# Altium schematic symbol library Voltage Regulator.SchLib: 52 symbols (part 1 of 2)
Pins are listed as number, name and electrical type; pins without a type are passive.

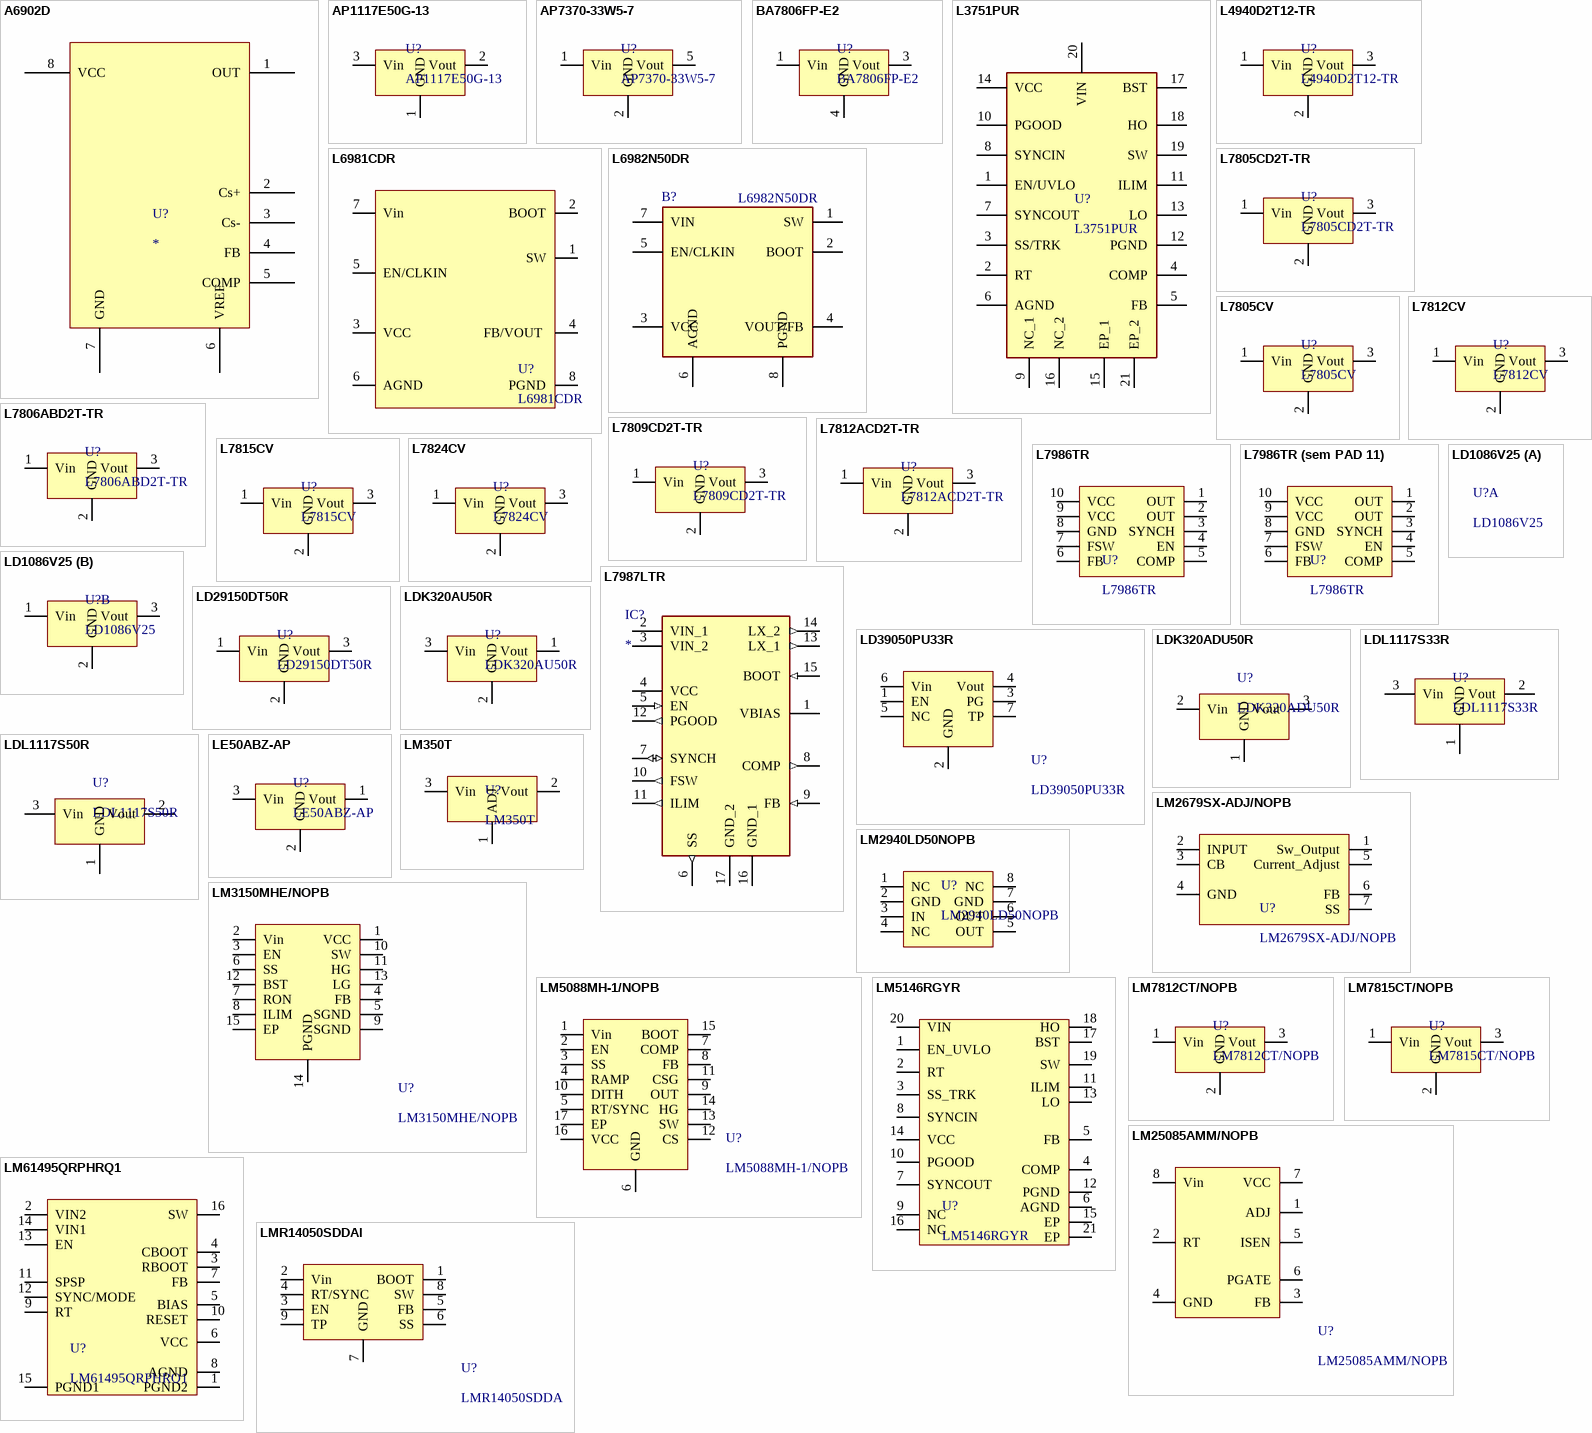
[diagram p0: symbols A6902D to LMR14050SDDAl]

## A6902D
designator U?
IC REG SWITCHING 36V 3.2A SO-8; Manufacturer: STMicroelectronics; Manufacturer Part Number: A6902D; Package Body Material: Plastic; Throw Configuration: SWITCHING REGULATOR; Control Mode: VOLTAGE-MODE; Min Input Voltage: 8V; Nominal Supply Voltage: 12V; Channels: 1; Package Equivalence Code: SOP8,.25; Switcher Configuration: BUCK; Frequency: 280kHz; Qualification Status: Not Qualified; Supplier: Heisener; Supplier Part Number: A6902D; RoHS: Yes; Category: Voltage Regulators - Switching; Stock: 5879; Pricing: 1=1,5991 (USD); Case/Package: SOP; Pins: 8; Package Shape: Rectangular; Min Operating Temperature: -40°C; Max Operating Temperature: 85°C; Max Supply Voltage: 36V; JESD-30 Code: R-PDSO-G8; Max Output current: 3.2A; Package Style: SMALL OUTLINEMeter; Surface Mount: Yes; Technology: MOS; Terminal Form: Gull Wing; Terminal Position: DUAL; Length: 4.9mm; Width: 3.9mm; Height - Seated (Max): 1.75mm; Terminal Pitch: 1.27mm; Temperature Grade: INDUSTRIAL; Reach SVHC Compliant: Yes; RoHS Compliant: Yes; ComponentLink1URL: https://datasheet.ciiva.com:443/pdfs/VipMasterIC/IC/SGST/SGST-S-A0006719125/SGST-S-A0006719125-1.pdf?src-supplier=IHS+Markit; ComponentLink1Description: https://datasheet.ciiva.com:443/pdfs/VipMasterIC/IC/SGST/SGST-S-A0006719125/SGST-S-A0006719125-1.pdf?src-supplier=IHS+Markit; ComponentLink2URL: http://www.mouser.com/ds/2/389/a6902d-973891.pdf?src-supplier=Mouser; ComponentLink2Description: http://www.mouser.com/ds/2/389/a6902d-973891.pdf?src-supplier=Mouser; ComponentLink3URL: http://www.st.com/web/en/resource/technical/document/datasheet/CD00172512.pdf?src-supplier=Avnet; ComponentLink3Description: http://www.st.com/web/en/resource/technical/document/datasheet/CD00172512.pdf?src-supplier=Avnet; ComponentLink4URL: http://www.st.com/content/ccc/resource/technical/document/datasheet/15/ec/62/48/21/a2/4d/30/CD00172512.pdf/files/CD00172512.pdf/jcr:content/translations/en.CD00172512.pdf?src-supplier=Digikey; ComponentLink4Description: http://www.st.com/content/ccc/resource/technical/document/datasheet/15/ec/62/48/21/a2/4d/30/CD00172512.pdf/files/CD00172512.pdf/jcr:content/translations/en.CD00172512.pdf?src-supplier=Digikey; ComponentLink5URL: https://datasheet.octopart.com/A6902D-STMicroelectronics-datasheet-62331165.pdf?src-supplier=SHENGYU+ELECTRONICS; ComponentLink5Description: https://datasheet.octopart.com/A6902D-STMicroelectronics-datasheet-62331165.pdf?src-supplier=SHENGYU+ELECTRONICS
footprint SO-8 (Regulator)
pins: 1 OUT, 2 Cs+, 3 Cs-, 4 FB, 5 COMP, 6 VREF, 7 GND, 8 VCC

## AP1117E50G-13
designator U?
IC REG LINEAR 5V 1A SOT-223-3; Manufacturer: Diodes Incorporated; Max Power Dissipation: 15 W; Output Type: Fixed; Number of Regulators: 1; Voltage - Input (Max): 18V; Current - Quiescent (Iq): 10 mA; Voltage - Dropout (Max): 1.3V; Library Control - Checked Footprint: Yes; Library Control - Person that Checked Footprint: Nícolas; Power Dissipation: Internally limited; Voltage - Output (Max): 5.1V; Supplier 1: MOUSER; Part Number: AP1117E50G-13; Library Ref: Voltage Regulator; Category: Linear Voltage Regulator; Price: 1= 0.48000, 10= 0.38900, 100= 0.24000 (USD); Package/ Case: SOT-223-3; Operating Temperature: -20°C~125°C; Voltage - Output (Min/Fixed): 5V; Supplier Part Number 1: 621-AP1117E50G-13; Library Control - Checked Schematic: Yes; Library Control - Last Update: 24/06/21 18:50; Library Control - Person that Checked Schematic: Nícolas; Library Control - Person that did the Last Update Schematic: Nícolas; Current - Output: 1 A; ComponentLink1Description: Mouser Link; ComponentLink1URL: https://br.mouser.com/ProductDetail/Diodes-Incorporated/AP1117E50G-13?qs=%2Fha2pyFadugY3B1se8ggjHM3Rnn%252BdepklK%252BjtxF%2FSx8Z%2FYRK43Uigw%3D%3D; ComponentLink2Description: Datasheet; ComponentLink2URL: https://br.mouser.com/datasheet/2/115/AP1117-82280.pdf
footprint SOT-223-3
pins: 1 GND (power), 2 Vout (power), 3 Vin (power)

## AP7370-33W5-7
designator U?
IC REG LINEAR 3.3V 300mA SOT-25-5; Manufacturer: Diodes Incorporated; Max Power Dissipation: 0,967W; Output Type: Fixed; Number of Regulators: 1; Voltage - Input (Max): 20V; Current - Quiescent (Iq): Ultra Low; Voltage - Dropout (Max): ~1.5V; Library Control - Checked Footprint: Yes; Library Control - Person that Checked Footprint: Nícolas; Power Dissipation: 0.967W; Supplier 1: Mouser; Part Number: AP7370-33W5-7; Library Ref: Voltage Regulator; Category: Linear Voltage Regulator; Price: 1=0,40, 10=0,32, 100=0,19 (USD); Package/ Case: SOT-25-5; Operating Temperature: -65~150ºC; Voltage - Output (Min/Fixed): 3.3V; Supplier Part Number 1: 621-AP7370-33W5-7; Library Control - Checked Schematic: Yes; Library Control - Last Update: 25/06/21; Library Control - Person that Checked Schematic: Nícolas; Library Control - Person that did the Last Update Schematic: Nícolas; Current - Output: 300mA; Voltage - Output (Max): 3.3V; ComponentLink1Description: Mouser Link; ComponentLink1URL: https://br.mouser.com/ProductDetail/Diodes-Incorporated/AP7370-33W5-7?qs=%2Fha2pyFadugvTLtMbpNAWKSUPVJjR9Anq%2F198IzgkwzIRMdjBskxocCj%2FSGsAqTl; ComponentLink2Description: Datasheet; ComponentLink2URL: https://br.mouser.com/datasheet/2/115/AP7370-1605740.pdf
footprint SOT-25-5 (SOT23, 5-Leads, Body 2,95x2,75mm, Pitch 0,95mm, IPC Medium Density)
pins: 1 Vin (power), 2 GND (power), 5 Vout (power)

## BA7806FP-E2
designator U?
IC REG LINEAR 6V 1A  TO-252-3; Manufacturer: ROHM Semiconductor; Max Power Dissipation: 10W; Output Type: Fixed; Number of Regulators: 1; Voltage - Input (Max): 21V; Current - Quiescent (Iq): 10mA; Voltage - Dropout (Max): 2V; Library Control - Checked Footprint: Yes; Library Control - Last Project that Used: None; Library Control - Person that Checked Footprint: Nícolas; Library Control - Person that did the Last Update Footprint: Ticken; Supplier 1: Mouser; Part Number: BA7806FP-E2; Library Ref: Linear Voltage Regulator; Category: Linear Regulators; Price: 1= 1.04, 10= 0.926, 100= 0.722 (USD); Package/ Case: TO-252-3; Operating Temperature: -40°C~85°C; Voltage - Output (Min/Fixed): 6V; Supplier Part Number 1: 755-BA7806FP-E2; Library Control - Checked Schematic: Yes; Library Control - Last Update: 06/06/2021; Library Control - Person that Checked Schematic: Nícolas; Library Control - Person that did the Last Update Schematic: Ticken; ComponentLink1Description: Mouser Link; ComponentLink1URL: https://br.mouser.com/ProductDetail/ROHM-Semiconductor/BA7806FP-E2?qs=%2Fha2pyFaduhWsB%252BR6z9FYqJU6SQf0SofA6pKfKkQ2n0vurGA%252Bwxu0g%3D%3D; ComponentLink2Description: Datasheet; ComponentLink2URL: https://br.mouser.com/datasheet/2/348/ba78_series-e-1874155.pdf
footprint TO-252-3_
pins: 1 Vin (power), 3 Vout (power), 4 GND (power)

## L3751PUR
designator U?
IC REG SWITCHING 30V 7A; Manufacturer: ST; Number of Regulators: 1; Voltage - Input (Max): 6 ~ 75V; Voltage - Output (Min/Fixed): 0.8 ~ 60V; Supplier 1: Mouser; Part Number: L3751PUR; Library Ref: Switching Voltage Regulator; Category: Voltage Regulator; Price: -; Package/ Case: QFN20; Operating Temperature: -40°C ~ +150°C; Max Power Dissipation: -; Output Type: -; Supplier Part Number 1: 511-L3751PUR; Voltage - Input (Min): *; Voltage - Output (Max): *; Current - Output: *; Frequency - Switching: *; Current - Operating Supply: *; ComponentLink1Description: Mouser Link; ComponentLink1URL: https://br.mouser.com/ProductDetail/STMicroelectronics/L3751PUR?qs=tlsG%2FOw5FFigxiT6z1V%252B%252Bw%3D%3D; ComponentLink2Description: Datasheet; ComponentLink2URL: https://br.mouser.com/datasheet/2/389/l3751-2950138.pdf
footprint L3751PUR
pins: 1 EN/UVLO, 2 RT, 3 SS/TRK, 4 COMP, 5 FB, 6 AGND, 7 SYNCOUT, 8 SYNCIN, 9 NC_1, 10 PGOOD, 11 ILIM, 12 PGND, 13 LO, 14 VCC, 15 EP_1, 16 NC_2, 17 BST, 18 HO, 19 SW, 20 VIN, 21 EP_2

## L4940D2T12-TR
designator U?
IC REG LINEAR 12V 1.5A  D2PAK; Manufacturer: STMicroeletronics; Max Power Dissipation: 20W; Output Type: Fixed; Number of Regulators: 1; Voltage - Input (Max): 30V; Current - Quiescent (Iq): 30mA; Voltage - Dropout (Max): 900 mV; Library Control - Checked Footprint: Yes; Library Control - Last Project that Used: None; Library Control - Person that Checked Footprint: Nícolas; Library Control - Person that did the Last Update Footprint: Ticken; Supplier 1: Mouser; Part Number: L4940D2T12-TR; Library Ref: Linear Voltage Regulator; Category: Linear Regulators; Price: 1 = 1.63/ 10 = 1.47/ 25 = 1.40/ 100 = 1.15 (USD); Package/ Case: TO-263-3; Operating Temperature: -40°C~150°C; Voltage - Output (Min/Fixed): 12V; Supplier Part Number 1: 511-L4940D2T12-TR; Library Control - Checked Schematic: Yes; Library Control - Last Update: 24/06/21; Library Control - Person that Checked Schematic: Nícolas; Library Control - Person that did the Last Update Schematic: Ticken; ComponentLink1Description: Mouser Link; ComponentLink1URL: https://br.mouser.com/ProductDetail/STMicroelectronics/L4940D2T12-TR?qs=%2Fha2pyFadui8HofDMA595p5I8no6nuvNwrh%252B2nPICQS97fB%2F%252BudI%252BA%3D%3D; ComponentLink2Description: Datasheet; ComponentLink2URL: https://br.mouser.com/datasheet/2/389/cd00000442-1795443.pdf
footprint D2PAK (D2-PAK, 3-Pads, Body 7,60x8,64mm (max), IPC Medium Density)
pins: 1 Vin (power), 2 GND (power), 3 Vout (power)

## L6981CDR
designator U?
IC REG SWITCHING 1.5A 3.5V TO 38V; Manufacturer: STM; Output Type: Adjustable; Number of Regulators: 1; Library Control - Checked Schematic: Yes; Library Control - Person that Checked Footprint: Stéfany (Ster); Library Control - Person that did the Last Update Footprint: Maria Laura; Frequency - Switching: 400kHz; Supplier 1: STM; Part Number: L6981CDR; Library Ref: Voltage Regulator; Category: Switching Voltage Regulator; Price: 1=2,72, 10=2,45, 100=1,97 (USD); Package/ Case: SO-8; Operating Temperature: -40~150ºC; Max Power Dissipation: -; Voltage - Input (Max): 38V; Voltage - Output (Min/Fixed): 3.5V; Supplier Part Number 1: L6981CDR; Voltage - Dropout (Max): -; Library Control - Last Update: 22/08/2021 16:31; Library Control - Person that Checked Schematic: Stéfany (Ster); Library Control - Person that did the Last Update Schematic: Stéfany (Ster); Voltage - Input (Min): 3.5V; Voltage - Output (Max): 38V; Current - Output: 1.5A; Current - Operating Supply: -; ComponentLink1Description: Datasheet; ComponentLink1URL: https://www.st.com/resource/en/datasheet/l6981.pdf; ComponentLink2Description: STM Link; ComponentLink2URL: https://estore.st.com/en/l6981cdr-cpn.html
footprint SO-8 (Regulator)
pins: 1 SW, 2 BOOT, 3 VCC, 4 FB/VOUT , 5 EN/CLKIN, 6 AGND, 7 Vin, 8 PGND

## L6982N50DR
designator B?
38 V, 2 A synchronous step-down converter with low quiescent current; Manufacturer_Name: STMicroelectronics; Geometry.Height: 1.75mm; Mouser Part Number: 511-L6982N50DR; Mouser Price/Stock: https://www.mouser.co.uk/ProductDetail/STMicroelectronics/L6982N50DR?qs=rQFj71Wb1eViugxt34b%2FVA%3D%3D; Manufacturer_Part_Number: L6982N50DR; Datasheet Link: https://www.st.com/resource/en/datasheet/l6982.pdf
footprint SO-8 (Regulator)
pins: 1 SW, 2 BOOT, 3 VCC, 4 VOUT/FB, 5 EN/CLKIN, 6 AGND, 7 VIN, 8 PGND

## L7805CD2T-TR
designator U?
IC REG LINEAR 5V 1A D2PAK; Manufacturer: ST; Max Power Dissipation: Internally Limited; Output Type: Fixed; Number of Regulators: 1; Voltage - Input (Max): 35V; Current - Quiescent (Iq): 8mA; Voltage - Dropout (Max): 2V; Library Control - Checked Footprint: Yes; Library Control - Person that Checked Footprint: Nícolas; Voltage - Output (Max): 5.25V; Supplier 1: Mouser; Part Number: L7805CD2T-TR; Library Ref: Voltage Regulator; Category: Linear Voltage Regulator; Price: 1=0,93, 10=0,83, 100=0,79 (USD); Package/ Case: D2PAK; Operating Temperature: -40~125 ºC; Voltage - Output (Min/Fixed): 5V; Supplier Part Number 1: 511-L7805CD2T-TR; Library Control - Checked Schematic: Yes; Library Control - Last Update: 25/06/21; Library Control - Person that Checked Schematic: Nícolas; Library Control - Person that did the Last Update Schematic: Nícolas; Current - Output: 1A; Power Dissipation: Internally Limited; ComponentLink1Description: Mouser Link; ComponentLink1URL: https://br.mouser.com/ProductDetail/STMicroelectronics/L7805CD2T-TR?qs=%2Fha2pyFadujE9KQ1BxQHaLKqcK8XYkwQA8UfL%2FIGb8dfQq%2Fq%2FT%2Fjqg%3D%3D; ComponentLink2Description: Datasheet; ComponentLink2URL: https://br.mouser.com/datasheet/2/389/cd00000444-1795274.pdf
footprint D2PAK (D2-PAK, 3-Pads, Body 7,60x8,64mm (max), IPC Medium Density)
pins: 1 Vin (power), 2 GND (power), 3 Vout (power)

## L7805CV
designator U?
IC REG LINEAR 5V 1A TO-220; Manufacturer: STMicroelectronics; Max Power Dissipation: Internally limited; Output Type: Fixed; Number of Regulators: 1; Voltage - Input (Max): 35V; Current - Quiescent (Iq): 8 mA; Voltage - Dropout (Max): 2V; Library Control - Checked Footprint: Yes; Library Control - Person that Checked Footprint: Nícolas; Voltage - Output (Max): 5.25V; Supplier 1: MOUSER; Part Number: L7805CV; Library Ref: Voltage Regulator; Category: Linear Voltage Regulator; Price: 1= 0.67000, 10= 0.53200, 100= 0.39500 (USD); Package/ Case: TO-220; Operating Temperature: 0°C~125°C; Voltage - Output (Min/Fixed): 5V; Supplier Part Number 1: 511-L7805CV; Library Control - Checked Schematic: Yes; Library Control - Last Update: 23/06 10:59; Library Control - Person that Checked Schematic: Nícolas; Library Control - Person that did the Last Update Schematic: Nícolas; Current - Output: 1 A; Power Dissipation: Internally limited; ComponentLink1Description: Mouser Link; ComponentLink1URL: https://br.mouser.com/ProductDetail/STMicroelectronics/L7805CV?qs=9NrABl3fj%2FqplZAHiYUxWg%3D%3D; ComponentLink2Description: Datasheet; ComponentLink2URL: https://br.mouser.com/datasheet/2/389/cd00000444-1795274.pdf
footprint TO-220-3.
pins: 1 Vin (power), 2 GND (power), 3 Vout (power)

## L7806ABD2T-TR
designator U?
IC REG LINEAR 6V  1.5A D2PAK; Manufacturer: STMicroelectronics; Output Type: Fixed; Voltage - Input (Max): 35V; Current - Quiescent (Iq): 4.3mA; Library Control - Checked Footprint: Yes; Library Control - Person that Checked Footprint: Lazanha; Power Dissipation: Internally limited; Voltage - Output (Max): 24V; Supplier 1: Mouser; Part Number: L7806ABD2T-TR; Library Ref: Voltage Regulator; Category: Linear Voltage Regulators; Price: 1=1.18, 10=1.06, 100=0.824 (USD); Package/ Case: D2PAK; Operating Temperature: -40 to +125; Max Power Dissipation: -; Number of Regulators: -; Voltage - Output (Min/Fixed): 6V; Supplier Part Number 1: 511-L7806ABD2T-TR; Voltage - Dropout (Max): -; Library Control - Checked Schematic: Yes; Library Control - Last Update: 17/08/2022; Library Control - Person that Checked Schematic: Lazanha; Current - Output: 1.5A; ComponentLink1Description: Mouser; ComponentLink1URL: https://br.mouser.com/ProductDetail/STMicroelectronics/L7806ABD2T-TR?qs=SN1ICb4Lokb2dwnq3j%2FzZw%3D%3D; ComponentLink2Description: Datasheet; ComponentLink2URL: https://br.mouser.com/datasheet/2/389/l78-1849632.pdf
footprint D2PAK (D2-PAK, 3-Pads, Body 7,60x8,64mm (max), IPC Medium Density)
pins: 1 Vin (power), 2 GND (power), 3 Vout (power)

## L7809CD2T-TR
designator U?
IC REG LINEAR 9V 1.5A  D2PAK-3; Manufacturer: STMicroeletronics; Max Power Dissipation: Internally Limited; Output Type: Fixed; Number of Regulators: 1; Voltage - Input (Max): 35V; Current - Quiescent (Iq): 8mA; Voltage - Dropout (Max): 2V; Library Control - Checked Footprint: Yes; Library Control - Last Project that Used: None; Library Control - Person that Checked Footprint: Nícolas; Library Control - Person that did the Last Update Footprint: Ticken; Supplier 1: Mouser; Part Number: L7809CD2T-TR; Library Ref: Linear Voltage Regulator; Category: Linear Regulators; Price: 1 = 0.83/ 10 = 0.69/ 100 = 0.564 (USD); Package/ Case: D2PAK-3; Operating Temperature: 0°C~125°C; Voltage - Output (Min/Fixed): 9V; Supplier Part Number 1: 511-L7809CD2T-TR; Library Control - Checked Schematic: Yes; Library Control - Last Update: 24/06/2021; Library Control - Person that Checked Schematic: Nícolas; Library Control - Person that did the Last Update Schematic: Nícolas; ComponentLink1Description: Mouser Link; ComponentLink1URL: https://br.mouser.com/ProductDetail/STMicroelectronics/L7809CD2T-TR?qs=%2Fha2pyFadujE9KQ1BxQHaEatF%252B7k6HEFVcJJTiOr%252BuVa2Pgn7dKD3A%3D%3D; ComponentLink2Description: Datasheet; ComponentLink2URL: https://br.mouser.com/datasheet/2/389/cd00000444-1795274.pdf
footprint D2PAK (D2-PAK, 3-Pads, Body 7,60x8,64mm (max), IPC Medium Density)
pins: 1 Vin (power), 2 GND (power), 3 Vout (power)

## L7812ACD2T-TR
designator U?
IC REG LINEAR 12V 1.5A D2PAK; Manufacturer: STMicroelectronics; Max Power Dissipation: Internally limited; Output Type: Fixed; Number of Regulators: 1; Voltage - Input (Max): 35V; Current - Quiescent (Iq): 6 mA; Voltage - Dropout (Max): 2; Library Control - Checked Footprint: Yes; Library Control - Person that Checked Footprint: Nícolas; Current - Output: 1.0 A; Voltage - Output (Max): 12.5V; Supplier 1: MOUSER; Part Number: L7812ACD2T-TR; Library Ref: Voltage Regulator; Category: Linear Voltage Regulator; Price: 1= 0.83000, 10= 0.69000, 100= 0.56400 (USD); Package/ Case: D2PAK; Operating Temperature: 0°C~125°C; Voltage - Output (Min/Fixed): 12V; Supplier Part Number 1: 511-L7812ACD2T-TR; Library Control - Checked Schematic: Yes; Library Control - Last Update: 24/06/21 19:03; Library Control - Person that Checked Schematic: Nícolas; Library Control - Person that did the Last Update Schematic: Nícolas; Power Dissipation: Internally limited; ComponentLink1Description: Mouser Link; ComponentLink1URL: https://br.mouser.com/ProductDetail/STMicroelectronics/L7812ACD2T-TR?qs=%2Fha2pyFadughRW5ba%2FUlu%252BBIrfEWqNYikXUXbqNAKzaYx5upn8F2%252Bw%3D%3D; ComponentLink2Description: Datasheet; ComponentLink2URL: https://www.mouser.com/datasheet/2/389/cd00000444-1795274.pdf
footprint D2PAK (D2-PAK, 3-Pads, Body 7,60x8,64mm (max), IPC Medium Density)
pins: 1 Vin (power), 2 GND (power), 3 Vout (power)

## L7812CV
designator U?
IC REG LINEAR 12V 1.5A TO-220; Manufacturer: ST; Max Power Dissipation: Internally Limited; Output Type: Fixed; Number of Regulators: 1; Voltage - Input (Max): 35V; Current - Quiescent (Iq): 8mA; Voltage - Dropout (Max): 2V; Library Control - Checked Footprint: Yes; Library Control - Person that Checked Footprint: Nícolas; Current - Output: 1.0A; Voltage - Output (Max): 12.5V; Supplier 1: Mouser; Part Number: L7812CV; Library Ref: Voltage Regulator; Category: Linear Voltage Regulator; Price: 1= 0,49, 10= 0,39, 100=0,29 (USD); Package/ Case: TO-220; Operating Temperature: -40~125ºC; Voltage - Output (Min/Fixed): 12V; Supplier Part Number 1: 511-L7812CV; Library Control - Checked Schematic: Yes; Library Control - Person that Checked Schematic: Nícolas; Library Control - Person that did the Last Update Schematic: Nícolas; Power Dissipation: Internally Limited; ComponentLink1Description: Mouser Link; ComponentLink1URL: https://br.mouser.com/ProductDetail/STMicroelectronics/L7812CV?qs=5Uvc6lfWVJzVGZQZmBynyg%3D%3D; ComponentLink2Description: Datasheet; ComponentLink2URL: https://br.mouser.com/datasheet/2/389/cd00000444-1795274.pdf
footprint TO-220-3.
pins: 1 Vin (power), 2 GND (power), 3 Vout (power)

## L7815CV
designator U?
IC REG LINEAR 15V 1.5A TO-220; Manufacturer: ST; Max Power Dissipation: Internally Limited; Output Type: Fixed; Number of Regulators: 1; Voltage - Input (Max): 35V; Current - Quiescent (Iq): 8mA; Voltage - Dropout (Max): 2V; Library Control - Checked Footprint: Yes; Library Control - Person that Checked Footprint: Lazanha; Current - Output: 1A; Voltage - Output (Max): 15.6V; Supplier 1: Mouser; Part Number: L7815CV; Library Ref: Voltage Regulator; Category: Linear Voltage Regulator; Price: 1=0,67, 10=0,53, 100=0,39 (USD); Datasheet: https://br.mouser.com/datasheet/2/389/cd00000444-1795274.pdf; Package/ Case: TO-220; Operating Temperature: -40~125 ºC; Voltage - Output (Min/Fixed): 15V; Supplier Part Number 1: 511-L7815CV; Library Control - Checked Schematic: Yes; Library Control - Last Update: 15/08/2001; Library Control - Person that Checked Schematic: Lazanha; Power Dissipation: Internally Limited; ComponentLink1Description: Datasheet; ComponentLink1URL: https://br.mouser.com/datasheet/2/389/l78-1849632.pdf; ComponentLink2Description: Mouse Link; ComponentLink2URL: https://br.mouser.com/ProductDetail/STMicroelectronics/L7815CV?qs=htKRmzjvioQnqIcNFSQfsw%3D%3D
footprint TO-220-3.
pins: 1 Vin (power), 2 GND (power), 3 Vout (power)

## L7824CV
designator U?
IC REG LINEAR 24V 1.5A TO-220; Manufacturer: ST; Max Power Dissipation: Internally Limited; Output Type: Fixed; Number of Regulators: 1; Voltage - Input (Max): 40V; Voltage - Output (Min/Fixed): 23V/24V; Current - Quiescent (Iq): 6mA; Voltage - Dropout (Max): 2V; Library Control - Checked Footprint: Yes; Library Control - Person that Checked Footprint: Cage; Voltage - Output (Max): 25V; Supplier 1: Mouser; Part Number: L7824CV; Library Ref: Voltage Regulator; Category: Linear Voltage Regulator; Price: 1= 0,88 10= 0,759 100=0,699 (USD); Package/ Case: TO-220; Operating Temperature: 0~125ºC; Supplier Part Number 1: 511-L7824CV; Library Control - Checked Schematic: Yes; Library Control - Person that Checked Schematic: Cage; Library Control - Person that did the Last Update Footprint: Cage; Library Control - Person that did the Last Update Schematic: Cage; Current - Output: 1.5A; Power Dissipation: Internally Limited; ComponentLink1Description: Mouser Link; ComponentLink1URL: https://www.mouser.com/ProductDetail/STMicroelectronics/L7824CV?qs=GQP%2FxgjKl96cWFC%252B68wxSg%3D%3D; ComponentLink2Description: Datasheet; ComponentLink2URL: https://www.mouser.com/datasheet/2/389/l78-1849632.pdf
footprint TO-220-3.
pins: 1 Vin (power), 2 GND (power), 3 Vout (power)

## L7986TR
designator U?
IC SWITCHING REGULATOR 3A 0.6V TO 38V 1.5W; Manufacturer: ST; Current - Quiescent (Iq): 2.4mA; Library Control - Checked Footprint: Yes; Library Control - Person that Checked Footprint: Nícolas; Supplier 1: Mouser; Part Number: L7986TR; Library Ref: Voltage Regulator; Category: Switch Voltage Regulator; Price: 1=2.13, 10=1.91, 100=1.81 (USD); Package/ Case: VFQFPN10; Operating Temperature: -40~150 ºC; Max Power Dissipation: 1.5W; Voltage - Input (Max): 38V; Voltage - Output (Min/Fixed): 0.6V to 38V; Supplier Part Number 1: 511-L7986TR; Voltage - Dropout (Max): -; Library Control - Checked Schematic: Yes; Library Control - Last Update: 25/06/21; Library Control - Person that Checked Schematic: Nícolas; Library Control - Person that did the Last Update Schematic: Nícolas; Current - Output: 3A; Power Dissipation: 1.5W; Voltage - Output (Max): 38V; ComponentLink1Description: Mouser Link; ComponentLink1URL: https://br.mouser.com/ProductDetail/STMicroelectronics/L7986TR?qs=%2Fha2pyFaduhSAWyUowiTGEPjDeRtnwDI5JloeVo%2FbPI%3D; ComponentLink2Description: Datasheet; ComponentLink2URL: https://br.mouser.com/datasheet/2/389/dm00041568-1797348.pdf
footprint VFQFPN-10 (SON, 10-Leads, Body 3,00x3,00mm, Pitch 0,50mm, Thermal Pad 2,45x1,44mm, IPC Medium Density)
pins: 1 OUT, 2 OUT, 3 SYNCH, 4 EN, 5 COMP, 6 FB, 7 FSW, 8 GND, 9 VCC, 10 VCC

## L7986TR (sem PAD 11)
designator U?, comment L7986TR
IC SWITCHING REGULATOR 3A 0.6V TO 38V 1.5W; Manufacturer: ST; Current - Quiescent (Iq): 2.4mA; Library Control - Checked Footprint: Yes; Library Control - Person that Checked Footprint: Nícolas; Supplier 1: Mouser; Part Number: L7986TR; Library Ref: Voltage Regulator; Category: Switch Voltage Regulator; Price: 1=2.13, 10=1.91, 100=1.81 (USD); Package/ Case: VFQFPN10; Operating Temperature: -40~150 ºC; Max Power Dissipation: 1.5W; Voltage - Input (Max): 38V; Voltage - Output (Min/Fixed): 0.6V to 38V; Supplier Part Number 1: 511-L7986TR; Voltage - Dropout (Max): -; Library Control - Checked Schematic: Yes; Library Control - Last Update: 25/06/21; Library Control - Person that Checked Schematic: Nícolas; Library Control - Person that did the Last Update Schematic: Nícolas; Current - Output: 3A; Power Dissipation: 1.5W; Voltage - Output (Max): 38V; ComponentLink1Description: Mouser Link; ComponentLink1URL: https://br.mouser.com/ProductDetail/STMicroelectronics/L7986TR?qs=%2Fha2pyFaduhSAWyUowiTGEPjDeRtnwDI5JloeVo%2FbPI%3D; ComponentLink2Description: Datasheet; ComponentLink2URL: https://br.mouser.com/datasheet/2/389/dm00041568-1797348.pdf
footprint VFQFPN-10 - sem o pad central (SON, 10-Leads, Body 3,00x3,00mm, Pitch 0,50mm, Thermal Pad 2,45x1,44mm, IPC Medium Density)
pins: 1 OUT, 2 OUT, 3 SYNCH, 4 EN, 5 COMP, 6 FB, 7 FSW, 8 GND, 9 VCC, 10 VCC

## L7987LTR
designator IC?
Integrated Circuit; Manufacturer_Name: STMicroelectronics; Manufacturer_Part_Number: L7987LTR; Datasheet Link: https://componentsearchengine.com/Datasheets/1/L7987LTR.pdf; Height: 1.2mm; Arrow Part Number: L7987LTR; Arrow Price/Stock: https://www.arrow.com/en/products/l7987ltr/stmicroelectronics
footprint SOP65P640X120-17N
pins: 1 VBIAS (power), 2 VIN_1 (power), 3 VIN_2 (power), 4 VCC (power), 5 EN (in), 6 SS (out), 7 SYNCH (io), 8 COMP (out), 9 FB (in), 10 FSW (out), 11 ILIM (out), 12 PGOOD (out), 13 LX_1 (out), 14 LX_2 (out), 15 BOOT (in), 16 GND_1 (power), 17 GND_2 (power)

## LD1086V25
designator U?
IC LDO Voltage Regulators 2.5V 1.5A  TO-220-3 Positive; Manufacturer: STMicroelectronics; Output Type: Fixed; Voltage - Input (Max): 30 V; Current - Quiescent (Iq): 10 mA; Library Control - Checked Footprint: Yes; Library Control - Person that Checked Footprint: Lazanha; Power Dissipation: Internally Limited; Supplier 1: Mouser; Part Number: LD1086V25; Library Ref: Voltage Regulator; Category: LDO Voltage Regulators; Price: no stock; Package/ Case: TO-220-3; Operating Temperature: -40 to +125; Max Power Dissipation: -; Number of Regulators: -; Voltage - Output (Min/Fixed): 2.5 V; Supplier Part Number 1: 511-LD1086V25; Voltage - Dropout (Max): -; Library Control - Checked Schematic: Yes; Library Control - Last Update: 17/08/2022; Library Control - Person that Checked Schematic: Lazanha; Current - Output: 1.5A; Voltage - Output (Max): 2.5V; ComponentLink1Description: Mouser; ComponentLink1URL: https://br.mouser.com/ProductDetail/STMicroelectronics/LD1086V25?qs=JFwQ8L3e8iZvonq6SViqnA%3D%3D; ComponentLink2Description: Datasheet; ComponentLink2URL: https://br.mouser.com/datasheet/2/389/stmicroelectronics_cd00001884-1205006.pdf
footprint TO-220-3.
part B pins: 1 Vin (power), 2 GND (power), 3 Vout (power)

## LD29150DT50R
designator U?
IC REG LINEAR 5V 1.5A  DPAK; Manufacturer: STMicroeletronics; Max Power Dissipation: Internally Limited; Output Type: Fixed; Number of Regulators: 1; Voltage - Input (Max): 30V; Current - Quiescent (Iq): 30mA; Voltage - Dropout (Max): 0.7V; Library Control - Checked Footprint: Yes; Library Control - Last Project that Used: None; Library Control - Person that Checked Footprint: Nícolas; Library Control - Person that did the Last Update Footprint: Ticken; Supplier 1: Mouser; Part Number: LD29150DT50R; Library Ref: Linear Voltage Regulator; Category: Linear Regulators; Price: 1 = 1.31/ 10 = 1.18/ 25 = 1.12 (USD); Package/ Case: DPAK; Operating Temperature: -40°C~125°C; Voltage - Output (Min/Fixed): 5V; Supplier Part Number 1: 511-LD29150DT50R; Library Control - Checked Schematic: Yes; Library Control - Last Update: 24/06/2021; Library Control - Person that Checked Schematic: Nícolas; Library Control - Person that did the Last Update Schematic: Nícolas; ComponentLink1Description: Mouser Link; ComponentLink1URL: https://br.mouser.com/ProductDetail/STMicroelectronics/LD29150DT50R?qs=%2Fha2pyFaduhqmkZyMAN0lB6EKjN%252B2y%252BnfQy7%2F65D8B7SS6NEoncPxg%3D%3D; ComponentLink2Description: Datasheet; ComponentLink2URL: https://br.mouser.com/datasheet/2/389/cd00003403-1796235.pdf
footprint D2PAK (D2-PAK, 3-Pads, Body 7,60x8,64mm (max), IPC Medium Density)
pins: 1 Vin (power), 2 GND (power), 3 Vout (power)

## LD39050PU33R
designator U?
IC REG LINEAR 3.3V 500mA DFN-6; Manufacturer: ST; Output Type: Fixed; Number of Regulators: 1; Voltage - Input (Max): 5.5V; Current - Quiescent (Iq): 200uA; Voltage - Dropout (Max): 400mV; Library Control - Checked Schematic: Yes; Library Control - Person that Checked Schematic: Nícolas; Library Control - Person that did the Last Update Footprint: Raquel; Power Dissipation: Internally limited; Supplier 1: MOUSER; Part Number: LD39050PU33R; Library Ref: Voltage Regulator; Category: Linear Voltage Regulator; Price: 1=1,15, 10=1,04, 100=0,805 (USD); Package/ Case: DFN-6; Operating Temperature: -40~125ºC; Voltage - Output (Min/Fixed): 3.3V; Supplier Part Number 1: 511-LD39050PU33R; Library Control - Last Update: 13/06/21; Library Control - Person that did the Last Update Schematic: Raquel; Current - Output: 500mA; Voltage - Output (Max): 3.3V; ComponentLink1Description: Datasheet; ComponentLink1URL: https://br.mouser.com/datasheet/2/389/cd00227527-1796864.pdf; ComponentLink2Description: Mouser Link; ComponentLink2URL: https://br.mouser.com/ProductDetail/STMicroelectronics/LD39050PU33R?qs=%2Fha2pyFaduiE1jyjxyHM5a6T743eYlvFtYmsVlKyOscUOFir55lSig%3D%3D
footprint DFN-6 (SON, 6-Leads, Body 3,00x3,00mm, Pitch 0,95mm, Thermal Pad 2,37x1,49mm, IPC Medium Density)
pins: 1 EN, 2 GND, 3 PG, 4 Vout, 5 NC, 6 Vin, 7 TP

## LDK320ADU50R
designator U?
IC REG LINEAR 5V 200mA SOT-89-4; Manufacturer: STMicroelectronics; Max Power Dissipation: Internally limited; Output Type: Fixed; Number of Regulators: 1; Voltage - Input (Max): 18V; Current - Quiescent (Iq): 70 uA; Voltage - Dropout (Max): 200 mV; Library Control - Checked Footprint: Yes; Library Control - Person that Checked Footprint: Nícolas; Voltage - Output (Max): 5.15V; Supplier 1: MOUSER; Part Number: LDK320ADU50R; Library Ref: Voltage Regulator; Category: Linear Voltage Regulator; Price: 1= 0.88, 10= 0.723, 100= 0.59 (USD); Package/ Case: SOT-89-4; Operating Temperature: -40°C~125°C; Voltage - Output (Min/Fixed): 5V; Supplier Part Number 1: 511-LDK320ADU50R; Library Control - Checked Schematic: Yes; Library Control - Last Update: 06/09/21; Library Control - Person that Checked Schematic: Nícolas; Library Control - Person that did the Last Update Footprint: Nícolas; Library Control - Person that did the Last Update Schematic: Nícolas; Current - Output: 200 mA; Power Dissipation: Internally limited; ComponentLink1Description: Mouser Link; ComponentLink1URL: https://br.mouser.com/ProductDetail/STMicroelectronics/LDK320ADU50R?qs=%2Fha2pyFadujGyCgmZOQFKRb%252BzyniWJO%252BoqS%252BUfpbC2nXNfgTbTGZYQ%3D%3D; ComponentLink2Description: Datasheet; ComponentLink2URL: https://br.mouser.com/datasheet/2/389/dm00236470-1798725.pdf
footprint SOT-89-4
pins: 1 GND (power), 2 Vin (power), 3 Vout (power)

## LDK320AU50R
designator U?
IC REG LINEAR 5V 200mA SOT-89-4; Manufacturer: STMicroelectronics; Max Power Dissipation: Internally limited; Output Type: Fixed; Number of Regulators: 1; Voltage - Input (Max): 18V; Current - Quiescent (Iq): 70 uA; Voltage - Dropout (Max): 100 mV; Library Control - Checked Footprint: Yes; Library Control - Person that Checked Footprint: Nícolas; Voltage - Output (Max): 5.15V; Supplier 1: MOUSER; Part Number: LDK320AU50R; Library Ref: Voltage Regulator; Category: Linear Voltage Regulator; Price: 1= 0.86, 10= 0.707, 100= 0.578 (USD); Package/ Case: SOT-89-4; Operating Temperature: -40°C~125°C; Voltage - Output (Min/Fixed): 5V; Supplier Part Number 1: 511-LDK320AU50R; Library Control - Checked Schematic: Yes; Library Control - Last Update: 06/09/2021; Library Control - Person that Checked Schematic: Nícolas; Library Control - Person that did the Last Update Footprint: Nícolas; Library Control - Person that did the Last Update Schematic: Nícolas; Current - Output: 200 mA; Power Dissipation: Internally limited; ComponentLink1Description: Mouser Link; ComponentLink1URL: https://br.mouser.com/ProductDetail/STMicroelectronics/LDK320AU50R?qs=%2Fha2pyFaduiMXwXYaKkPLzJpJEJ12ljcTzSLjxIl1D%2FHuBiqaTKj9Q%3D%3D; ComponentLink2Description: Datasheet; ComponentLink2URL: https://br.mouser.com/datasheet/2/389/dm00236470-1798725.pdf
footprint SOT-89-4
pins: 1 Vout (power), 2 GND (power), 3 Vin (power)

## LDL1117S33R
designator U?
IC REG LINEAR 3.3V 1.2A SOT-223-4; Manufacturer: STMicroelectronics; Max Power Dissipation: Internally limited; Output Type: Fixed; Number of Regulators: 1; Voltage - Input (Max): 18V; Current - Quiescent (Iq): 250 uA; Voltage - Dropout (Max): 600mV (1.2 A); Library Control - Checked Footprint: Yes; Library Control - Person that Checked Footprint: Nícolas; Library Control - Person that did the Last Update Footprint: Pierre; Voltage - Output (Max): 3.6V; Supplier 1: Mouser; Part Number: LDL1117S33R; Library Ref: Voltage Regulator; Category: Linear Voltage Regulator; Price: 1= 0.46000, 10= 0.34000, 100= 0.22900 (USD); Package/ Case: SOT-223-4; Operating Temperature: -40°C~125°C; Voltage - Output (Min/Fixed): 3.3 V; Supplier Part Number 1: 511-LDL1117S33R; Library Control - Checked Schematic: Yes; Library Control - Last Update: 23/06/21 10:22; Library Control - Person that Checked Schematic: Nícolas; Library Control - Person that did the Last Update Schematic: Nícolas; Current - Output: 1.2 A; Power Dissipation: Internally limited; ComponentLink1Description: Mouser Link; ComponentLink1URL: https://br.mouser.com/ProductDetail/STMicroelectronics/LDL1117S33R?qs=%2Fha2pyFadugA91l4ky%2FRZ5SN3GrMJ6YI2MUHTqmRDLfkBVrFdA%252BW6Q%3D%3D; ComponentLink2Description: Datasheet; ComponentLink2URL: https://br.mouser.com/datasheet/2/389/dm00366442-1799212.pdf
footprint SOT-223-4
pins: 1 GND (power), 2 Vout (power), 3 Vin (power)

## LDL1117S50R
designator U?
IC REG LINEAR 5V 1.2A SOT-223-4; Manufacturer: STMicroelectronics; Max Power Dissipation: Internally limited; Output Type: Fixed; Number of Regulators: 1; Voltage - Input (Max): 18V; Current - Quiescent (Iq): 500 uA; Voltage - Dropout (Max): 600 mV; Library Control - Checked Footprint: Yes; Library Control - Person that Checked Footprint: Nícolas; Voltage - Output (Max): 5.1V; Supplier 1: MOUSER; Part Number: LDL1117S50R; Library Ref: Voltage Regulator; Category: Linear Voltage Regulator; Price: 1= 0.46000, 10= 0.34000, 100= 0.22900 (USD); Package/ Case: SOT-223-4; Operating Temperature: -40°C~125°C; Voltage - Output (Min/Fixed): 5V; Supplier Part Number 1: 511-LDL1117S50R; Library Control - Checked Schematic: Yes; Library Control - Last Update: 24/06/21 19:10; Library Control - Person that Checked Schematic: Nícolas; Library Control - Person that did the Last Update Schematic: Nícolas; Current - Output: 1.2 A; Power Dissipation: Internally limited; ComponentLink1Description: Mouser Link; ComponentLink1URL: https://br.mouser.com/ProductDetail/STMicroelectronics/LDL1117S50R?qs=AQlKX63v8RsuN9BQFiVf%2Fg%3D%3D; ComponentLink2Description: Datasheet; ComponentLink2URL: https://br.mouser.com/datasheet/2/389/dm00366442-1799212.pdf
footprint SOT-223-4
pins: 1 GND (power), 2 Vout (power), 3 Vin (power)

## LE50ABZ-AP
designator U?
IC LDO Regulator 5.0V 100mA TO-92-3 Positive; Manufacturer: STMicroelectronics; Output Type: Fixed; Voltage - Input (Max): 18V; Voltage - Output (Min/Fixed): 5V; Current - Quiescent (Iq): 50 nA; Voltage - Dropout (Max): 500 mV; Library Control - Checked Footprint: Yes; Library Control - Last Project that Used: Lazanha; Supplier 1: Mouser; Part Number: LE50ABZ-AP; Library Ref: Voltage Regulator; Category: LDO Voltage Regulators; Price: 1=1.28, 10=1.26, 100=0.898 (USD); Package/ Case: TO-92-3; Operating Temperature: -40 to +125; Max Power Dissipation: -; Number of Regulators: -; Supplier Part Number 1: 511-LE50ABZ-AP; Library Control - Checked Schematic: Yes; Library Control - Last Update: Lazanha; Current - Output: 100mA; Power Dissipation: -; Voltage - Output (Max): -; ComponentLink1Description: Mouser; ComponentLink1URL: https://br.mouser.com/ProductDetail/STMicroelectronics/LE50ABZ-AP?qs=ZTK%252Bjoi3Sg7JvtZ5P0puWg%3D%3D; ComponentLink2Description: Datasheet; ComponentLink2URL: https://br.mouser.com/datasheet/2/389/lexx-1849820.pdf
footprint TO-92-3
pins: 1 Vout (power), 2 GND (power), 3 Vin (power)

## LM350T
designator U?
IC REG LINEAR  1.2V to 33V 3A TO-220-3; Manufacturer: Texas Instruments; Max Power Dissipation: 25 W; Output Type: Adjustable; Voltage - Input (Max): 35V; Current - Quiescent (Iq): 0.05mA; Library Control - Checked Footprint: yes; Library Control - Person that Checked Footprint: Lazanha; Power Dissipation: Internally Limited; Supplier 1: Mouser; Part Number: LM350T; Library Ref: Voltage Regulator; Category: Linear Voltage Regulators; Price: 45=2.52, 90=2.14, 270=2.01 (USD); Package/ Case: TO-220-3; Operating Temperature: 0 to +125; Number of Regulators: -; Voltage - Output (Min/Fixed): 1.2V to 33V; Supplier Part Number 1: 926-LM350T; Voltage - Dropout (Max): -; Library Control - Checked Schematic: yes; Library Control - Last Update: 14/08/2022; Library Control - Person that Checked Schematic: Lazanha; Current - Output: 3A; Voltage - Output (Max): -; ComponentLink1Description: Mouser; ComponentLink1URL: https://br.mouser.com/ProductDetail/Texas-Instruments/LM350T?qs=QbsRYf82W3ET2g8%2FVkuXIw%3D%3D; ComponentLink2Description: Datasheet; ComponentLink2URL: https://www.ti.com/lit/ds/symlink/lm350-n.pdf?HQS=dis-mous-null-mousermode-dsf-pf-null-wwe&ts=1660513743323&ref_url=https%253A%252F%252Fbr.mouser.com%252F
footprint TO-220-3.
pins: 1 ADJ (power), 2 Vout (power), 3 Vin (power)

## LM2679SX-ADJ/NOPB
designator U?
IC SWITCHING REGULATOR 1.2V TO 37V 5A; Manufacturer: Texas Instruments; Max Power Dissipation: Internally Limited; Output Type: Switch; Voltage - Input (Max): 45V; Voltage - Output (Min/Fixed): Adjustable; Current - Quiescent (Iq): 6mA; Voltage - Dropout (Max): ~1.125V; Library Control - Checked Footprint: Yes; Library Control - Person that Checked Footprint: Nícolas; Supplier 1: Mouser; Part Number: LM2679SX-ADJ/NOPB; Library Ref: Voltage Regulator; Category: Switch Voltage Regulator; Price: 1=63,2, 10=5,68, 100=5,37 (USD); Package/ Case: TO-263-7; Operating Temperature: -40 ~125ºC; Supplier Part Number 1: 926-LM2679SXADJNOPB; Library Control - Checked Schematic: Yes; Library Control - Last Update: 25/06/21; Library Control - Person that Checked Schematic: Nícolas; Library Control - Person that did the Last Update Schematic: Nícolas; Current - Output: 5A; Power Dissipation: Internally Limited; Voltage - Output (Max): 37V; ComponentLink1Description: Mouser Link; ComponentLink1URL: https://br.mouser.com/ProductDetail/Texas-Instruments/LM2679SX-ADJ-NOPB?qs=X1J7HmVL2ZEYTS2v67ZbZA%3D%3D; ComponentLink2Description: Datasheet; ComponentLink2URL: https://www.ti.com/lit/ds/symlink/lm2679.pdf?HQS=dis-mous-null-mousermode-dsf-pf-null-wwe&ts=1622835755029&ref_url=https%253A%252F%252Fwww.google.com%252F
footprint TO-263-7 (D2-PAK, 8-Pads, Body 8,51x8,66mm (max), IPC Medium Density)
pins: 1 Sw_Output, 2 INPUT, 3 CB, 4 GND, 5 Current_Adjust, 6 FB, 7 SS

## LM2940LD50NOPB
designator U?
IC REG LINEAR 5V 1A  WSON-8; Manufacturer: Texas Instruments; Max Power Dissipation: Internally Limited; Output Type: Fixed; Number of Regulators: 1; Voltage - Input (Max): 26V; Current - Quiescent (Iq): 30mA; Voltage - Dropout (Max): 0.5V; Library Control - Checked Footprint: Yes; Library Control - Last Project that Used: None; Library Control - Person that Checked Footprint: Nícolas; Library Control - Person that did the Last Update Footprint: Ticken; Supplier 1: Mouser; Part Number: LM2940LD50NOPB; Library Ref: Linear Voltage Regulator; Category: Linear Regulators; Price: 1 = 2.21/ 10 = 1.99/ 100 = 1.88 (USD); Package/ Case: WSON-8; Operating Temperature: -40°C~125°C; Voltage - Output (Min/Fixed): 5V; Supplier Part Number 1: 926-LM2940LD50NOPB; Library Control - Checked Schematic: Yes; Library Control - Last Update: 24/06/2021; Library Control - Person that Checked Schematic: Nícolas; Library Control - Person that did the Last Update Schematic: Nícolas; ComponentLink1Description: Mouser Link; ComponentLink1URL: https://br.mouser.com/ProductDetail/Texas-Instruments/LM2940LD-50-NOPB?qs=%2Fha2pyFadugKcSytGIWTw0ZasxMLJMBybqFfYcsags8zUT2pDlA3%2F0TUbqHmaCsP; ComponentLink2Description: Datasheet; ComponentLink2URL: https://www.ti.com/general/docs/suppproductinfo.tsp?distId=26&gotoUrl=http%3A%2F%2Fwww.ti.com%2Flit%2Fgpn%2Flm2940-n
footprint WSON-8 (SON, 8-Leads, Body 4,00x4,00mm, Pitch 0,80mm, Thermal Pad 3,00x2,20mm, IPC Medium Density)
pins: 1 NC, 2 GND, 3 IN, 4 NC, 5 OUT, 6 OUT, 7 GND, 8 NC

## LM3150MHE/NOPB
designator U?
IC REG SWITCHING 12A 0V TO 0.6V; Manufacturer: Texas Instruments; Output Type: Regulated; Number of Regulators: 1; Voltage - Input (Max): 42V; Library Control - Checked Footprint: Yes; Library Control - Person that Checked Footprint: Nícolas; Library Control - Person that did the Last Update Footprint: Raquel; Voltage - Input (Min): 6V; Frequency - Switching: 1MHz; Current - Operating Supply: 3.5mA; Supplier 1: MOUSER; Part Number: LM3150MHE/NOPB; Library Ref: Voltage Regulator; Category: Switching Voltage Regulator; Price: 1=4,23, 10=3,80, 100=3,11 (USD); Package/ Case: HTSSOP-14; Operating Temperature: -40~125ºC; Max Power Dissipation: -; Voltage - Output (Min/Fixed): 0.6V; Supplier Part Number 1: 926-LM3150MHE/NOPB; Voltage - Dropout (Max): -; Library Control - Checked Schematic: Yes; Library Control - Last Update: 13/06/21; Library Control - Person that Checked Schematic: Nícolas; Library Control - Person that did the Last Update Schematic: Raquel; Voltage - Output (Max): 42V; Current - Output: 12A; ComponentLink1Description: Datasheet; ComponentLink1URL: https://www.ti.com/lit/ds/symlink/lm3150.pdf?HQS=dis-mous-null-mousermode-dsf-pf-null-wwe&ts=1622835430213&ref_url=https%253A%252F%252Fwww.google.com%252F; ComponentLink2Description: Mouser Link; ComponentLink2URL: https://br.mouser.com/ProductDetail/Texas-Instruments/LM3150MHE-NOPB?qs=%2Fha2pyFadujvnC2x0UTNH44IuoZUtI2bfShD1icSBFiWA5dioUHe0Rr9mciHEK%2Fq
footprint HTSSOP-14 (TSOP, 14-Leads, Body 5,00x4,16mm, Pitch 0,65mm, Thermal Pad 3,10x3,10mm, IPC Medium Density)
pins: 1 VCC, 2 Vin, 3 EN, 4 FB, 5 SGND, 6 SS, 7 RON, 8 ILIM, 9 SGND, 10 SW, 11 HG, 12 BST, 13 LG, 14 PGND, 15 EP

## LM5088MH-1/NOPB
designator U?
IC REG SWITCHING 10A 1.205V TO 70V; Manufacturer: Texas Instruments; Max Power Dissipation: 850mW; Output Type: Regulated; Number of Regulators: 1; Voltage - Input (Max): 75V; Library Control - Checked Footprint: Yes; Library Control - Person that Checked Footprint: Nícolas; Library Control - Person that did the Last Update Footprint: Raquel; Voltage - Input (Min): 4.5V; Frequency - Switching: 50kHz TO 1MHz; Current - Operating Supply: 3.8mA; Supplier 1: MOUSER; Part Number: LM5088MH-1/NOPB; Library Ref: Voltage Regulator; Category: Switching Voltage Regulator; Price: 1=4,80, 10=4,31, 100=3,52 (USD); Package/ Case: HTSSOP-16; Operating Temperature: -40~125ºC; Voltage - Output (Min/Fixed): 1.205V; Supplier Part Number 1: 926-LM5088MH-1/NOPB; Voltage - Dropout (Max): -; Library Control - Checked Schematic: Yes; Library Control - Last Update: 13/06/21; Library Control - Person that Checked Schematic: Nícolas; Library Control - Person that did the Last Update Schematic: Raquel; Voltage - Output (Max): 70V; Current - Output: 10A; ComponentLink1Description: Datasheet; ComponentLink1URL: https://www.ti.com/lit/ds/symlink/lm5088.pdf?HQS=dis-mous-null-mousermode-dsf-pf-null-wwe&ts=1622835413175&ref_url=https%253A%252F%252Fwww.google.com%252F; ComponentLink2Description: Mouser Link; ComponentLink2URL: https://br.mouser.com/ProductDetail/Texas-Instruments/LM5088MH-1-NOPB?qs=QbsRYf82W3Ec%2FzGVG381UQ%3D%3D
footprint HTSSOP-16 (TSOP, 16-Leads, Body 5,00x4,40mm, Pitch 0,65mm, Thermal Pad 3,30x3,30mm, IPC Medium Density)
pins: 1 Vin, 2 EN, 3 SS, 4 RAMP, 5 RT/SYNC, 6 GND, 7 COMP, 8 FB, 9 OUT, 10 DITH, 11 CSG, 12 CS, 13 SW, 14 HG, 15 BOOT, 16 VCC, 17 EP

## LM5146RGYR
designator U?
IC SWITCHING REGULATOR 30A 60V TO 30V; Manufacturer: Texas Instruments; Max Power Dissipation: Internally Limited; Output Type: Switch; Voltage - Input (Max): 5.5V TO 100V; Voltage - Output (Min/Fixed): 0.8V TO 60V; Library Control - Checked Schematic: Yes; Library Control - Person that Checked Schematic: Tico liro; Supplier 1: Mouser; Part Number: LM5146RGYR; Library Ref: Voltage Regulator; Category: Switch Voltage Regulator; Price: 1=3,64, 10=3,27, 100=2,68 (USD); Package/ Case: VQFN-20; Operating Temperature: -40~150ºC; Current - Quiescent (Iq): -; Supplier Part Number 1: 595-LM5146RGYR; Library Control - Person that did the Last Update Schematic: Tico Liro; Current - Output: 30A; Power Dissipation: Internally Limited; Voltage - Output (Max): 30V; ComponentLink1Description: Mouser Link; ComponentLink1URL: https://br.mouser.com/ProductDetail/Texas-Instruments/LM5146RGYR?qs=%2Fha2pyFaduhk8XheFGVmBgWFCRViatEKBmti2kUTRYI44RytWKn1jw%3D%3D; ComponentLink2Description: Datasheet; ComponentLink2URL: https://www.ti.com/lit/ds/symlink/lm5146.pdf?ts=1632687086144&ref_url=google.com
footprint VQFN-20
pins: 1 EN_UVLO, 2 RT, 3 SS_TRK, 4 COMP, 5 FB, 6 AGND, 7 SYNCOUT, 8 SYNCIN, 9 NC, 10 PGOOD, 11 ILIM, 12 PGND, 13 LO, 14 VCC, 15 EP, 16 NC, 17 BST, 18 HO, 19 SW, 20 VIN, 21 EP

## LM7812CT/NOPB
designator U?
IC REG LINEAR 12V 1.5A TO-220-3; Manufacturer: Texas Instrument; Output Type: Fixed; Voltage - Input (Max): 35V; Current - Quiescent (Iq): 8mA; Supplier 1: Mouser; Part Number: LM7812CT/NOPB; Library Ref: Voltage Regulator; Category: Linear Voltage Regulators; Price: 1=1.96, 10=1.77, 25=1.67 (USD); Package/ Case: TO-220-3; Operating Temperature: -40 to +125; Max Power Dissipation: -; Number of Regulators: -; Voltage - Output (Min/Fixed): 12V; Supplier Part Number 1: LM7812CT/NOPB; Voltage - Dropout (Max): -; Current - Output: 1.5A; Power Dissipation: -; Voltage - Output (Max): -; ComponentLink1Description: Mouser; ComponentLink1URL: https://br.mouser.com/ProductDetail/Texas-Instruments/LM7812CT-NOPB?qs=OYMYEaN9QmBofCpFKHiRuQ%3D%3D; ComponentLink2Description: Datasheet; ComponentLink2URL: https://www.ti.com/lit/ds/symlink/lm7800.pdf?HQS=dis-mous-null-mousermode-dsf-pf-null-wwe&ts=1660512939959&ref_url=https%253A%252F%252Fbr.mouser.com%252F
footprint TO-220-3.
pins: 1 Vin (power), 2 GND (power), 3 Vout (power)

## LM7815CT/NOPB
designator U?
IC REG LINEAR 15V 1.5A TO-220-3; Manufacturer: Texas Instruments; Output Type: Fixed; Voltage - Input (Max): 35V; Current - Quiescent (Iq): 8mA; Power Dissipation: Internally Limited; Supplier 1: Mouser; Part Number: LM7815CT/NOPB; Library Ref: Linear Voltage Regulators; Category: Linear Regulators; Price: 1=1.96, 10=1.77, 25=1.67 90=1.41 (USD); Package/ Case: TO-220-3; Operating Temperature: 0 to +125; Max Power Dissipation: -; Number of Regulators: -; Voltage - Output (Min/Fixed): 15V; Supplier Part Number 1: 926-LM7815CT/NOPB; Voltage - Dropout (Max): -; Library Control - Last Update: 14/08/2022; Current - Output: 1.5A; Voltage - Output (Max): -; ComponentLink1Description: Mouser; ComponentLink1URL: https://br.mouser.com/ProductDetail/Texas-Instruments/LM7815CT-NOPB?qs=OYMYEaN9QmAOq18obrj7fw%3D%3D; ComponentLink2Description: Datasheet; ComponentLink2URL: https://www.ti.com/general/docs/suppproductinfo.tsp?distId=26&gotoUrl=https://www.ti.com/lit/gpn/lm7800
footprint TO-220-3.
pins: 1 Vin (power), 2 GND (power), 3 Vout (power)

## LM25085AMM/NOPB
designator U?
IC REG SWITCHING 1.75A 0.9V TO 42V; Manufacturer: Texas Instruments; Output Type: Regulated; Number of Regulators: 1; Library Control - Checked Footprint: Yes; Library Control - Person that did the Last Update Footprint: Raquel; Voltage - Input (Min): 4.5V; Frequency - Switching: 1MHz; Current - Operating Supply: 1.25mA; Supplier 1: MOUSER; Part Number: LM25085AMM/NOPB; Library Ref: Voltage Regulator; Category: Switching Voltage Regulator; Price: 1=2,26, 10=2,04, 100=1,93 (USD); Package/ Case: VSSOP-8; Operating Temperature: -40~125ºC; Max Power Dissipation: -; Voltage - Input (Max): 42V; Voltage - Output (Min/Fixed): 0.9V; Supplier Part Number 1: 926-LM25085AMM/NOPB; Voltage - Dropout (Max): -; Library Control - Checked Schematic: Yes; Library Control - Last Update: 11/07/21; Library Control - Person that did the Last Update Schematic: Raquel; Voltage - Output (Max): 42V; Current - Output: 1.75A; ComponentLink1Description: Datasheet; ComponentLink1URL: https://www.ti.com/general/docs/suppproductinfo.tsp?distId=26&gotoUrl=http%3A%2F%2Fwww.ti.com%2Flit%2Fgpn%2Flm25085a; ComponentLink2Description: Mouser Link; ComponentLink2URL: https://br.mouser.com/ProductDetail/Texas-Instruments/LM25085AMM-NOPB?qs=X1J7HmVL2ZFzLd0kBZ%2FkDw%3D%3D
footprint VSSOP-8 (TSOP, 8-Leads, Body 3,00x3,00mm, Pitch 0,65mm, IPC Medium Density)
pins: 1 ADJ, 2 RT, 3 FB, 4 GND, 5 ISEN, 6 PGATE, 7 VCC, 8 Vin